# EAGLE library part L6234_ (library svBGC)
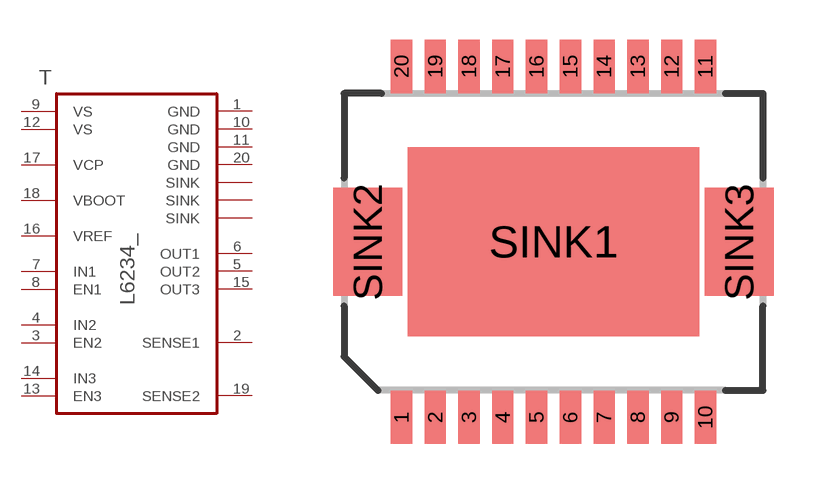
[diagram p2: symbol with the pads of POWERSO20; footprint POWERSO20]

Designator prefix T

## L6234_D  [POWERSO20]
1  GND  sup
2  SENSE1  in
3  EN2  in
4  IN2  in
5  OUT2  out
6  OUT1  out
7  IN1  in
8  EN1  in
9  VS  sup
10  GND  sup
11  GND  sup
12  VS  sup
13  EN3  in
14  IN3  in
15  OUT3  out
16  VREF  pas
17  VCP  out
18  VBOOT  in
19  SENSE2  in
20  GND  sup
SINK1  SINK  pas
SINK2  SINK  pas
SINK3  SINK  pas

## Footprint POWERSO20 (pad centres in mm)
smd 0.8 x 2: 1 -5.715,-6.6; 2 -4.445,-6.6; 3 -3.175,-6.6; 4 -1.905,-6.6; 5 -0.635,-6.6; 6 0.635,-6.6; 7 1.905,-6.6; 8 3.175,-6.6; 9 4.445,-6.6; 10 5.715,-6.6; 11 5.715,6.6; 12 4.445,6.6; 13 3.175,6.6; 14 1.905,6.6; 15 0.635,6.6; 16 -0.635,6.6; 17 -1.905,6.6; 18 -3.175,6.6; 19 -4.445,6.6; 20 -5.715,6.6
smd 10.973 x 7.112: SINK1 0,0
smd 2.591 x 4.064: SINK2 -6.985,0; SINK3 6.985,0